# EAGLE library part OLIMEX_MOD-WIFI-ESP8266-DEV (library ESP8266)
Olimex MOD-WIFI-ESP8266-DEV is an development board for ESP8266 with all GPIOs and resources exposed. It can be soldered to PCB or used with breadboard. Small U.FL connector is provided for external antenna connection.
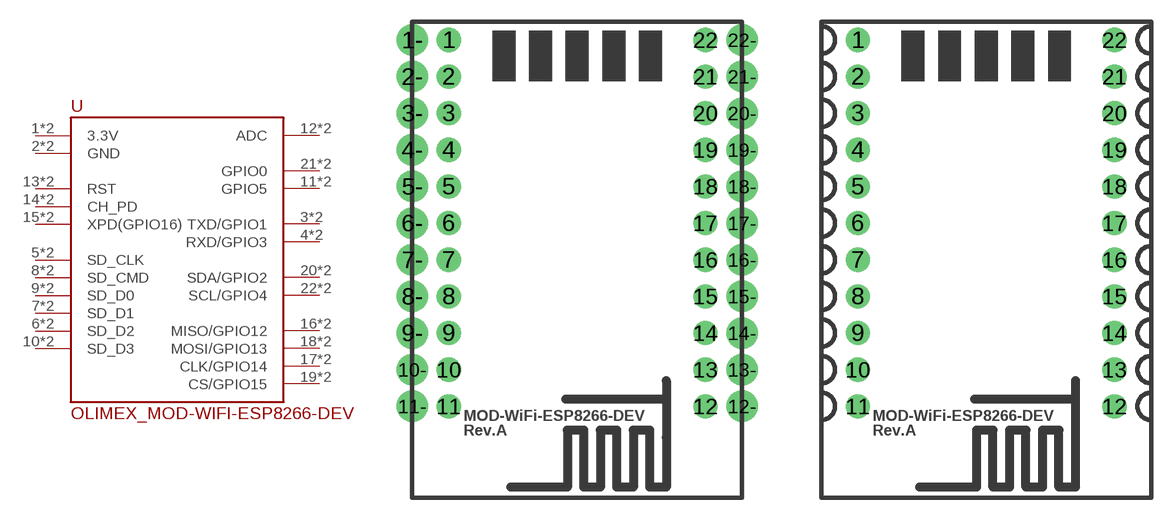
[diagram p15: symbol with the pads of OLIMEX_MOD-WIFI-ESP8266-DEV; footprints OLIMEX_MOD-WIFI-ESP8266-DEV, OLIMEX_MOD-WIFI-ESP8266-DEV-PINS-INSIDE]

Designator prefix -

## OLIMEX_MOD-WIFI-ESP8266-DEV (DIMENSION: 0.9 x 1.315"; DIMENSIONS: 22.85 x 33.35 mm; PINS: 22; PITCH: 0.1" / 2.54 mm)  [OLIMEX_MOD-WIFI-ESP8266-DEV]
1  3.3V  pwr
1-  3.3V  pwr
2  GND  pwr
2-  GND  pwr
3  TXD/GPIO1
3-  TXD/GPIO1
4  RXD/GPIO3
4-  RXD/GPIO3
5  SD_CLK
5-  SD_CLK
6  SD_D2
6-  SD_D2
7  SD_D1
7-  SD_D1
8  SD_CMD
8-  SD_CMD
9  SD_D0
9-  SD_D0
10  SD_D3
10-  SD_D3
11  GPIO5
11-  GPIO5
12  ADC
12-  ADC
13  RST  in
13-  RST  in
14  CH_PD  in
14-  CH_PD  in
15  XPD(GPIO16)
15-  XPD(GPIO16)
16  MISO/GPIO12
16-  MISO/GPIO12
17  CLK/GPIO14
17-  CLK/GPIO14
18  MOSI/GPIO13
18-  MOSI/GPIO13
19  CS/GPIO15
19-  CS/GPIO15
20  SDA/GPIO2
20-  SDA/GPIO2
21  GPIO0
21-  GPIO0
22  SCL/GPIO4
22-  SCL/GPIO4

## OLIMEX_MOD-WIFI-ESP8266-DEV>PINS-INSIDE  [OLIMEX_MOD-WIFI-ESP8266-DEV-PINS-INSIDE]
1  3.3V  pwr
2  GND  pwr
3  TXD/GPIO1
4  RXD/GPIO3
5  SD_CLK
6  SD_D2
7  SD_D1
8  SD_CMD
9  SD_D0
10  SD_D3
11  GPIO5
12  ADC
13  RST  in
14  CH_PD  in
15  XPD(GPIO16)
16  MISO/GPIO12
17  CLK/GPIO14
18  MOSI/GPIO13
19  CS/GPIO15
20  SDA/GPIO2
21  GPIO0
22  SCL/GPIO4

## OLIMEX_MOD-WIFI-ESP8266-DEV>PINS-OUTSIDE  [OLIMEX_MOD-WIFI-ESP8266-DEV-PINS-OUTSIDE]
Pads as for OLIMEX_MOD-WIFI-ESP8266-DEV-PINS-INSIDE

## Footprint OLIMEX_MOD-WIFI-ESP8266-DEV (pad centres in mm)
drill 1 pad 1.676: 1 2.54,0; 2 2.54,-2.54; 3 2.54,-5.08; 4 2.54,-7.62; 5 2.54,-10.16; 6 2.54,-12.7; 7 2.54,-15.24; 8 2.54,-17.78; 9 2.54,-20.32; 10 2.54,-22.86; 11 2.54,-25.4; 12 20.32,-25.4; 13 20.32,-22.86; 14 20.32,-20.32; 15 20.32,-17.78; 16 20.32,-15.24; 17 20.32,-12.7; 18 20.32,-10.16; 19 20.32,-7.62; 20 20.32,-5.08; 21 20.32,-2.54; 22 20.32,0
drill 1.3 pad 2.184: 1- 0,0; 2- 0,-2.54; 3- 0,-5.08; 4- 0,-7.62; 5- 0,-10.16; 6- 0,-12.7; 7- 0,-15.24; 8- 0,-17.78; 9- 0,-20.32; 10- 0,-22.86; 11- 0,-25.4; 12- 22.86,-25.4; 13- 22.86,-22.86; 14- 22.86,-20.32; 15- 22.86,-17.78; 16- 22.86,-15.24; 17- 22.86,-12.7; 18- 22.86,-10.16; 19- 22.86,-7.62; 20- 22.86,-5.08; 21- 22.86,-2.54; 22- 22.86,0

## Footprint OLIMEX_MOD-WIFI-ESP8266-DEV-PINS-INSIDE (pad centres in mm)
drill 1 pad 1.676: 1 2.54,0; 2 2.54,-2.54; 3 2.54,-5.08; 4 2.54,-7.62; 5 2.54,-10.16; 6 2.54,-12.7; 7 2.54,-15.24; 8 2.54,-17.78; 9 2.54,-20.32; 10 2.54,-22.86; 11 2.54,-25.4; 12 20.32,-25.4; 13 20.32,-22.86; 14 20.32,-20.32; 15 20.32,-17.78; 16 20.32,-15.24; 17 20.32,-12.7; 18 20.32,-10.16; 19 20.32,-7.62; 20 20.32,-5.08; 21 20.32,-2.54; 22 20.32,0

## Footprint OLIMEX_MOD-WIFI-ESP8266-DEV-PINS-OUTSIDE (pad centres in mm)
drill 1.3 pad 2.184: 1 0,0; 2 0,-2.54; 3 0,-5.08; 4 0,-7.62; 5 0,-10.16; 6 0,-12.7; 7 0,-15.24; 8 0,-17.78; 9 0,-20.32; 10 0,-22.86; 11 0,-25.4; 12 22.86,-25.4; 13 22.86,-22.86; 14 22.86,-20.32; 15 22.86,-17.78; 16 22.86,-15.24; 17 22.86,-12.7; 18 22.86,-10.16; 19 22.86,-7.62; 20 22.86,-5.08; 21 22.86,-2.54; 22 22.86,0